# EAGLE library part H3LIS100DLTR (library H3LIS100DLTR)
Accelerometer X, Y, Z Axis ±100g 25Hz ~ 200Hz 16-TFLGA (3x3)
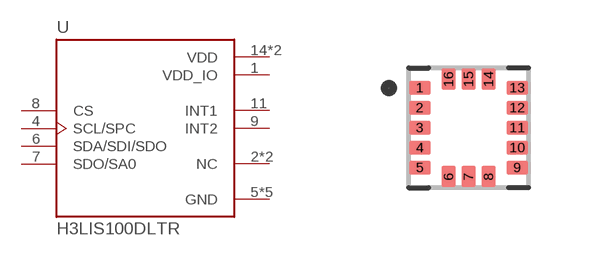
[diagram p0: symbol with the pads of PQFN50P300X300X100-16N; footprint PQFN50P300X300X100-16N]

Designator prefix U

## H3LIS100DLTR (Description: Accelerometer X, Y, Z Axis ±100g 25Hz ~ 200Hz 16-TFLGA (3x3); Digi-Key_Part_Number: 497-15697-2-ND; MF: STMicroelectronics; MP: H3LIS100DLTR; Package: TFLGA-16 STMicroelectronics; Purchase-URL: https://pricing.snapeda.com/search/part/H3LIS100DLTR/?ref=eda)  [PQFN50P300X300X100-16N]
1  VDD_IO  pwr
2  NC  nc
3  NC  nc
4  SCL/SPC  in
5  GND  pwr
6  SDA/SDI/SDO
7  SDO/SA0
8  CS  in
9  INT2  out
10  GND  pwr
11  INT1  out
12  GND  pwr
13  GND  pwr
14  VDD  pwr
15  VDD  pwr
16  GND  pwr

## Footprint PQFN50P300X300X100-16N (pad centres in mm)
smd 0.53 x 0.35: 1 -1.22,1; 2 -1.22,0.5; 3 -1.22,0; 4 -1.22,-0.5; 5 -1.22,-1; 9 1.22,-1; 10 1.22,-0.5; 11 1.22,0; 12 1.22,0.5; 13 1.22,1
smd 0.35 x 0.53: 6 -0.5,-1.22; 7 0,-1.22; 8 0.5,-1.22; 14 0.5,1.22; 15 0,1.22; 16 -0.5,1.22